# Altium footprint library SM_52-WFQFN EP.PcbLib: 1 footprints
Each footprint in its own frame and in the unit in brackets; x right, y up, seen from the top. Pads: shape width x height; smd on the part's side, far side on the other; paste and mask are expansions set on the pad; w line width, h text height; cw(c..) or ccw(c..) is an arc to the next point about the centre after c.
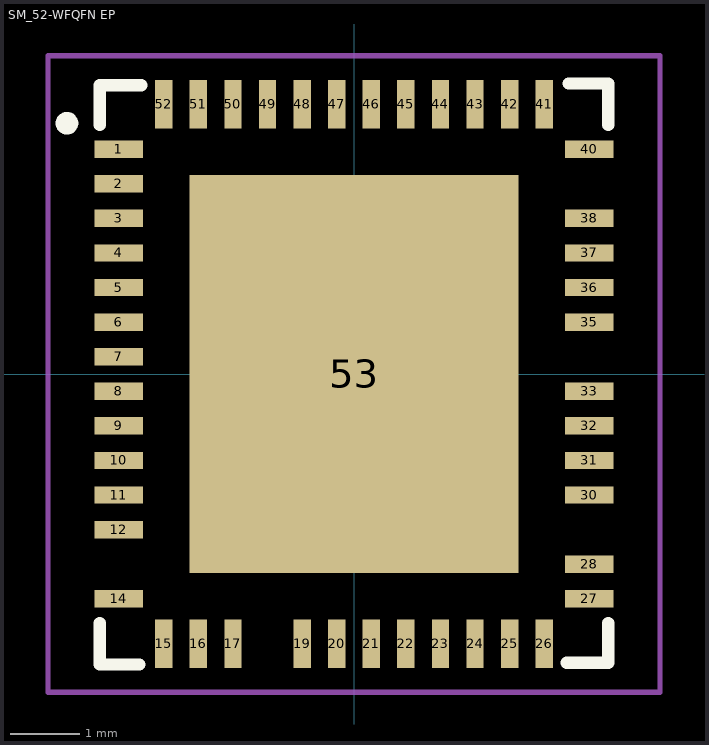
[diagram p0: the footprint, top view; thin cyan lines are the x and y axes]

## SM_52-WFQFN EP [mm]
pads (48):
  rect 0.7x0.25 smd mask+0.076: 1(-3.4,3.25) 2(-3.4,2.75) 3(-3.4,2.25) 4(-3.4,1.75) 5(-3.4,1.25) 6(-3.4,0.75) 7(-3.4,0.25) 8(-3.4,-0.25) 9(-3.4,-0.75) 10(-3.4,-1.25) 11(-3.4,-1.75) 12(-3.4,-2.25) 14(-3.4,-3.25) 27(3.4,-3.25) 28(3.4,-2.75) 30(3.4,-1.75) 31(3.4,-1.25) 32(3.4,-0.75) 33(3.4,-0.25) 35(3.4,0.75) 36(3.4,1.25) 37(3.4,1.75) 38(3.4,2.25) 40(3.4,3.25)
  rect 0.25x0.7 smd mask+0.076: 15(-2.75,-3.9) 16(-2.25,-3.9) 17(-1.75,-3.9) 19(-0.75,-3.9) 20(-0.25,-3.9) 21(0.25,-3.9) 22(0.75,-3.9) 23(1.25,-3.9) 24(1.75,-3.9) 25(2.25,-3.9) 26(2.75,-3.9) 41(2.75,3.9) 42(2.25,3.9) 43(1.75,3.9) 44(1.25,3.9) 45(0.75,3.9) 46(0.25,3.9) 47(-0.25,3.9) 48(-0.75,3.9) 49(-1.25,3.9) 50(-1.75,3.9) 51(-2.25,3.9) 52(-2.75,3.9)
  rect 4.75x5.75 smd mask+0.076: 53(0,0)
Top Overlay:
  circle w0.178: c-4.15,3.625 r0.075
  lines w0.178: -3.675,-3.6 -3.675,-4.2 -3.1,-4.2 ; -3.675,3.6 -3.675,4.175 -3.075,4.175 ; 3.075,-4.175 3.675,-4.175 3.675,-3.6 ; 3.1,4.2 3.675,4.2 3.675,3.6
Mechanical 15:
  lines w0.076: -4.425,-4.6 4.425,-4.6 4.425,4.6 -4.425,4.6 -4.425,-4.6
3D body: height 0.8, standoff 0, extent -3.5,-4 3.5,4